# Altium footprint library PcbLib1.PcbLib: 1 footprints
Each footprint in its own frame and in the unit in brackets; x right, y up, seen from the top. Pads: shape width x height; smd on the part's side, far side on the other; paste and mask are expansions set on the pad; w line width, h text height; cw(c..) or ccw(c..) is an arc to the next point about the centre after c.
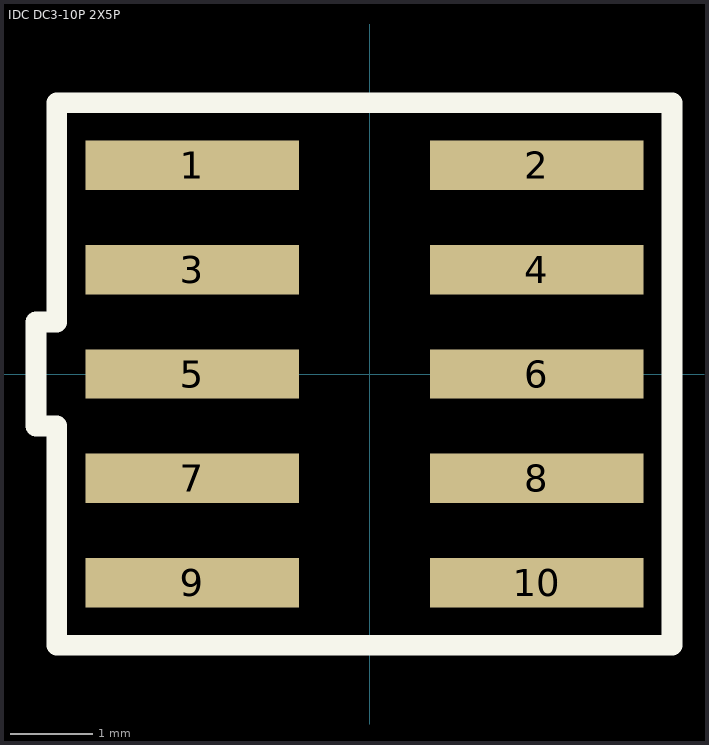
[diagram p0: the footprint, top view; thin cyan lines are the x and y axes]

## IDC DC3-10P 2X5P [mm]
height 5
pads (10):
  rect 2.6x0.6 smd: 1(-2.159,2.54) 2(2.032,2.54) 3(-2.159,1.27) 4(2.032,1.27) 5(-2.159,0) 6(2.032,0) 7(-2.159,-1.27) 8(2.032,-1.27) 9(-2.159,-2.54) 10(2.032,-2.54)
Top Overlay:
  lines w0.254: -4.064,-0.635 -3.81,-0.635 -3.81,-3.302 3.683,-3.302 3.683,3.302 -3.81,3.302 -3.81,0.635 -4.064,0.635 -4.064,-0.635